# Altium footprint library special.PCBLIB: 77 footprints (part 2 of 5)
Each footprint in its own frame and in the unit in brackets; x right, y up, seen from the top. Pads: shape width x height; smd on the part's side, far side on the other; paste and mask are expansions set on the pad; w line width, h text height; cw(c..) or ccw(c..) is an arc to the next point about the centre after c.
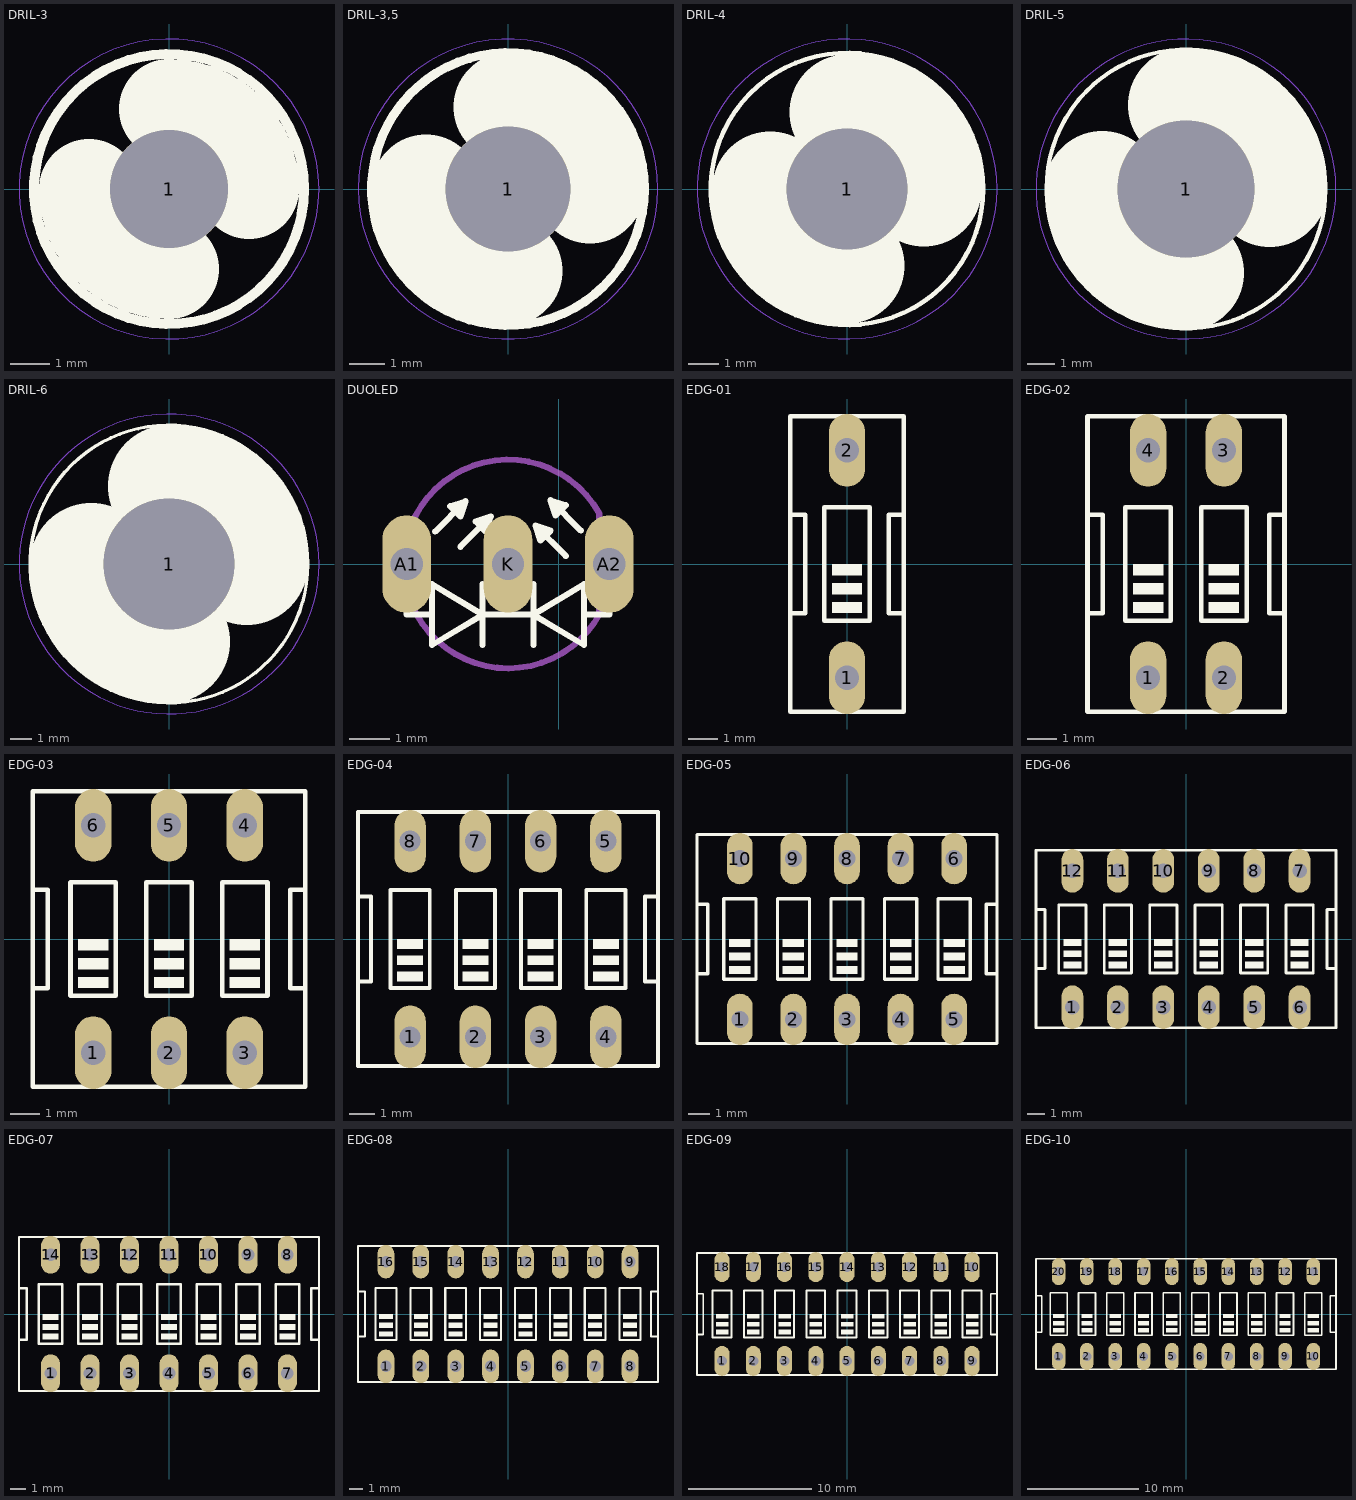
[diagram p1: the footprints below, top view; thin cyan lines are the x and y axes]

## DRIL-3 [mm]
pads (1):
  round 3 hole 3: 1(0,0)
Top Layer keep-out:
  circle w0: c0,0 r3.81
Bottom Layer keep-out:
  circle w0: c0,0 r3.81
Top Overlay:
  circle w0.254: c0,0 r3.429
  lines w2.54: -2.032,0 ccw(c0,0) 0,-2.032 ; 0,2.032 cw(c0,0) 2.032,0
Mechanical 16:
  circle w0.457: c0,0 r0.762
Via Holes:
  circle w0: c0,0 r3.81

## DRIL-3,5 [mil]
pads (1):
  round 137.8 hole 137.8: 1(0,0)
Top Layer keep-out:
  circle w0: c0,0 r165
Bottom Layer keep-out:
  circle w0: c0,0 r165
Top Overlay:
  circle w10: c0,0 r150
  lines w120: -90,0 ccw(c0,0) 0,-90 ; 0,90 cw(c0,0) 90,0
Mechanical 16:
  circle w18: c0,0 r30
Via Holes:
  circle w0: c0,0 r165

## DRIL-4 [mm]
pads (1):
  round 4 hole 4: 1(0,0)
Top Layer keep-out:
  circle w0: c0,0 r4.953
Bottom Layer keep-out:
  circle w0: c0,0 r4.953
Top Overlay:
  circle w0.152: c0,0 r4.496
  lines w3.81: -2.54,0 ccw(c0,0) 0,-2.54 ; 0,2.54 cw(c0,0) 2.54,0
Mechanical 16:
  circle w0.457: c0,0 r0.762
Via Holes:
  circle w0: c0,0 r4.953

## DRIL-5 [mm]
pads (1):
  round 5 hole 5: 1(0,0)
Top Layer keep-out:
  circle w0: c0,0 r5.461
Bottom Layer keep-out:
  circle w0: c0,0 r5.461
Top Overlay:
  circle w0.152: c0,0 r5.08
  lines w4.216: -3.048,0 ccw(c0,0) 0,-3.048 ; 0,3.048 cw(c0,0) 3.048,0
Mechanical 16:
  circle w0.457: c0,0 r0.762
Via Holes:
  circle w0: c0,0 r5.461

## DRIL-6 [mm]
pads (1):
  round 6 hole 6: 1(0,0)
Top Layer keep-out:
  circle w0: c0,0 r6.858
Bottom Layer keep-out:
  circle w0: c0,0 r6.858
Top Overlay:
  circle w0.152: c0,0 r6.35
  lines w5.588: -3.556,0 ccw(c0,0) 0,-3.556 ; 0,3.556 cw(c0,0) 3.556,0
Mechanical 16:
  circle w0.457: c0,0 r0.762
Via Holes:
  circle w0: c0,0 r6.858

## DUOLED [mil]
pads (3):
  oval 48x96 hole 32: A1(-150,0) A2(50,0) K(-50,0)
Top Overlay:
  lines w6: -150,-30 -150,-50 -125,-50 ; -122,32 -92,62 ; -102,57 -97,52 ; -97,17 -67,47 ; -77,42 -72,37 ; -75,-80 -75,-50 ; -75,-20 -75,-50 ; -50,-30 -50,-50 ; -25,-80 -25,-50 ; -25,-20 -25,-50 ; -18,28 -13,33 ; 0,60 2,58 ; 7,8 -23,38 ; 22,33 -8,63 ; 50,-30 50,-50 25,-50 ; -125,-50 -125,-20 -75,-50 ; -125,-50 -125,-80 -75,-50 ; -92,62 -97,47 -107,57 -92,62 ; -75,-50 -50,-50 ; -67,47 -82,42 -72,32 -67,47 ; -50,-50 -25,-50 ; -25,-50 25,-20 25,-50 ; -25,-50 25,-80 25,-50 ; -23,38 -8,33 -18,23 -23,38 ; -8,63 -3,48 7,58 -8,63
Mechanical 16:
  lines w6: 40,-50 40,50 ccw(c-50,0) 40.99,-48.17

## EDG-01 [mil]
pads (2):
  oval 48x96 hole 32: 1(0,-150) 2(0,150)
Top Overlay:
  rectangle: -20,-15 20,0
  rectangle: -20,-40 20,-25
  rectangle: -20,-65 20,-50
  lines w6: -75,-65 -55,-65 -55,65 -75,65 ; -75,-65 -75,-195 75,-195 75,-65 ; -75,-65 -75,65 ; -75,65 -75,195 75,195 75,65 ; 75,-65 55,-65 55,65 75,65 ; 75,-65 75,65 ; -30,-75 -30,75 30,75 30,-75 -30,-75
Mechanical 16:
  text "1" at -10,-165 h93
  text "ON" at -50,100 h93

## EDG-02 [mil]
pads (4):
  oval 48x96 hole 32: 1(-50,-150) 2(50,-150) 3(50,150) 4(-50,150)
Top Overlay:
  rectangle: 30,-15 70,0
  rectangle: 30,-40 70,-25
  rectangle: 30,-65 70,-50
  rectangle: -70,-15 -30,0
  rectangle: -70,-40 -30,-25
  rectangle: -70,-65 -30,-50
  lines w6: -130,-65 -110,-65 -110,65 -130,65 ; -130,-65 -130,-195 130,-195 130,-65 ; -130,-65 -130,65 ; -130,65 -130,195 130,195 130,65 ; 130,-65 110,-65 110,65 130,65 ; 130,-65 130,65 ; -80,-75 -80,75 -20,75 -20,-75 -80,-75 ; 20,-75 20,75 80,75 80,-75 20,-75
Mechanical 16:
  text "1" at -60,-165 h93
  text "ON" at -100,100 h93
  text "2" at 30,-165 h93

## EDG-03 [mil]
pads (6):
  oval 48x96 hole 32: 1(-100,-150) 2(0,-150) 3(100,-150) 4(100,150) 5(0,150) 6(-100,150)
Top Overlay:
  rectangle: 80,-15 120,0
  rectangle: 80,-40 120,-25
  rectangle: 80,-65 120,-50
  rectangle: -20,-15 20,0
  rectangle: -20,-40 20,-25
  rectangle: -20,-65 20,-50
  rectangle: -120,-15 -80,0
  rectangle: -120,-40 -80,-25
  rectangle: -120,-65 -80,-50
  lines w6: -180,-65 -160,-65 -160,65 -180,65 ; -180,-65 -180,-195 180,-195 180,-65 ; -180,-65 -180,65 ; -180,65 -180,195 180,195 180,65 ; 180,-65 160,-65 160,65 180,65 ; 180,-65 180,65 ; -130,-75 -130,75 -70,75 -70,-75 -130,-75 ; -30,-75 -30,75 30,75 30,-75 -30,-75 ; 70,-75 70,75 130,75 130,-75 70,-75
Mechanical 16:
  text "1" at -110,-165 h93
  text "ON" at -150,100 h93
  text "2" at -20,-165 h93
  text "3" at 80,-165 h93

## EDG-04 [mil]
pads (8):
  oval 48x96 hole 32: 1(-150,-150) 2(-50,-150) 3(50,-150) 4(150,-150) 5(150,150) 6(50,150) 7(-50,150) 8(-150,150)
Top Overlay:
  rectangle: 130,-15 170,0
  rectangle: 130,-40 170,-25
  rectangle: 130,-65 170,-50
  rectangle: 30,-15 70,0
  rectangle: 30,-40 70,-25
  rectangle: 30,-65 70,-50
  rectangle: -70,-15 -30,0
  rectangle: -70,-40 -30,-25
  rectangle: -70,-65 -30,-50
  rectangle: -170,-15 -130,0
  rectangle: -170,-40 -130,-25
  rectangle: -170,-65 -130,-50
  lines w6: -230,-65 -210,-65 -210,65 -230,65 ; -230,-65 -230,-195 230,-195 230,-65 ; -230,-65 -230,65 ; -230,65 -230,195 230,195 230,65 ; 230,-65 210,-65 210,65 230,65 ; 230,-65 230,65 ; -180,-75 -180,75 -120,75 -120,-75 -180,-75 ; -80,-75 -80,75 -20,75 -20,-75 -80,-75 ; 20,-75 20,75 80,75 80,-75 20,-75 ; 120,-75 120,75 180,75 180,-75 120,-75
Mechanical 16:
  text "1" at -160,-165 h93
  text "ON" at -200,100 h93
  text "2" at -70,-165 h93
  text "3" at 30,-165 h93
  text "4" at 130,-165 h93
  text "EDG" at 50,100 h93

## EDG-05 [mil]
pads (10):
  oval 48x96 hole 32: 1(-200,-150) 2(-100,-150) 3(0,-150) 4(100,-150) 5(200,-150) 6(200,150) 7(100,150) 8(0,150) 9(-100,150) 10(-200,150)
Top Overlay:
  rectangle: 180,-15 220,0
  rectangle: 180,-40 220,-25
  rectangle: 180,-65 220,-50
  rectangle: 80,-15 120,0
  rectangle: 80,-40 120,-25
  rectangle: 80,-65 120,-50
  rectangle: -20,-15 20,0
  rectangle: -20,-40 20,-25
  rectangle: -20,-65 20,-50
  rectangle: -120,-15 -80,0
  rectangle: -120,-40 -80,-25
  rectangle: -120,-65 -80,-50
  rectangle: -220,-15 -180,0
  rectangle: -220,-40 -180,-25
  rectangle: -220,-65 -180,-50
  lines w6: -280,-65 -260,-65 -260,65 -280,65 ; -280,-65 -280,-195 280,-195 280,-65 ; -280,-65 -280,65 ; -280,65 -280,195 280,195 280,65 ; 280,-65 260,-65 260,65 280,65 ; 280,-65 280,65 ; -230,-75 -230,75 -170,75 -170,-75 -230,-75 ; -130,-75 -130,75 -70,75 -70,-75 -130,-75 ; -30,-75 -30,75 30,75 30,-75 -30,-75 ; 70,-75 70,75 130,75 130,-75 70,-75 ; 170,-75 170,75 230,75 230,-75 170,-75
Mechanical 16:
  text "1" at -210,-165 h93
  text "ON" at -250,100 h93
  text "2" at -120,-165 h93
  text "3" at -20,-165 h93
  text "4" at 80,-165 h93
  text "5" at 180,-165 h93
  text "EDG" at 100,100 h93

## EDG-06 [mil]
pads (12):
  oval 48x96 hole 32: 1(-250,-150) 2(-150,-150) 3(-50,-150) 4(50,-150) 5(150,-150) 6(250,-150) 7(250,150) 8(150,150) 9(50,150) 10(-50,150) 11(-150,150) 12(-250,150)
Top Overlay:
  rectangle: 230,-15 270,0
  rectangle: 230,-40 270,-25
  rectangle: 230,-65 270,-50
  rectangle: 130,-15 170,0
  rectangle: 130,-40 170,-25
  rectangle: 130,-65 170,-50
  rectangle: 30,-15 70,0
  rectangle: 30,-40 70,-25
  rectangle: 30,-65 70,-50
  rectangle: -70,-15 -30,0
  rectangle: -70,-40 -30,-25
  rectangle: -70,-65 -30,-50
  rectangle: -170,-15 -130,0
  rectangle: -170,-40 -130,-25
  rectangle: -170,-65 -130,-50
  rectangle: -270,-15 -230,0
  rectangle: -270,-40 -230,-25
  rectangle: -270,-65 -230,-50
  lines w6: -330,-65 -310,-65 -310,65 -330,65 ; -330,-65 -330,-195 330,-195 330,-65 ; -330,-65 -330,65 ; -330,65 -330,195 330,195 330,65 ; 330,-65 310,-65 310,65 330,65 ; 330,-65 330,65 ; -280,-75 -280,75 -220,75 -220,-75 -280,-75 ; -180,-75 -180,75 -120,75 -120,-75 -180,-75 ; -80,-75 -80,75 -20,75 -20,-75 -80,-75 ; 20,-75 20,75 80,75 80,-75 20,-75 ; 120,-75 120,75 180,75 180,-75 120,-75 ; 220,-75 220,75 280,75 280,-75 220,-75
Mechanical 16:
  text "1" at -260,-165 h93
  text "ON" at -300,100 h93
  text "2" at -170,-165 h93
  text "3" at -70,-165 h93
  text "4" at 30,-165 h93
  text "5" at 130,-165 h93
  text "6" at 230,-165 h93
  text "EDG" at 150,100 h93

## EDG-07 [mil]
pads (14):
  oval 48x96 hole 32: 1(-300,-150) 2(-200,-150) 3(-100,-150) 4(0,-150) 5(100,-150) 6(200,-150) 7(300,-150) 8(300,150) 9(200,150) 10(100,150) 11(0,150) 12(-100,150) 13(-200,150) 14(-300,150)
Top Overlay:
  rectangle: 280,-15 320,0
  rectangle: 280,-40 320,-25
  rectangle: 280,-65 320,-50
  rectangle: 180,-15 220,0
  rectangle: 180,-40 220,-25
  rectangle: 180,-65 220,-50
  rectangle: 80,-15 120,0
  rectangle: 80,-40 120,-25
  rectangle: 80,-65 120,-50
  rectangle: -20,-15 20,0
  rectangle: -20,-40 20,-25
  rectangle: -20,-65 20,-50
  rectangle: -120,-15 -80,0
  rectangle: -120,-40 -80,-25
  rectangle: -120,-65 -80,-50
  rectangle: -220,-15 -180,0
  rectangle: -220,-40 -180,-25
  rectangle: -220,-65 -180,-50
  rectangle: -320,-15 -280,0
  rectangle: -320,-40 -280,-25
  rectangle: -320,-65 -280,-50
  lines w6: -380,-65 -360,-65 -360,65 -380,65 ; -380,-65 -380,-195 380,-195 380,-65 ; -380,-65 -380,65 ; -380,65 -380,195 380,195 380,65 ; 380,-65 360,-65 360,65 380,65 ; 380,-65 380,65 ; -330,-75 -330,75 -270,75 -270,-75 -330,-75 ; -230,-75 -230,75 -170,75 -170,-75 -230,-75 ; -130,-75 -130,75 -70,75 -70,-75 -130,-75 ; -30,-75 -30,75 30,75 30,-75 -30,-75 ; 70,-75 70,75 130,75 130,-75 70,-75 ; 170,-75 170,75 230,75 230,-75 170,-75 ; 270,-75 270,75 330,75 330,-75 270,-75
Mechanical 16:
  text "1" at -310,-165 h93
  text "ON" at -350,100 h93
  text "2" at -220,-165 h93
  text "3" at -120,-165 h93
  text "4" at -20,-165 h93
  text "5" at 80,-165 h93
  text "6" at 180,-165 h93
  text "7" at 280,-165 h93
  text "EDG" at 200,100 h93

## EDG-08 [mil]
pads (16):
  oval 48x96 hole 32: 1(-350,-150) 2(-250,-150) 3(-150,-150) 4(-50,-150) 5(50,-150) 6(150,-150) 7(250,-150) 8(350,-150) 9(350,150) 10(250,150) 11(150,150) 12(50,150) 13(-50,150) 14(-150,150) 15(-250,150) 16(-350,150)
Top Overlay:
  rectangle: 330,-15 370,0
  rectangle: 330,-40 370,-25
  rectangle: 330,-65 370,-50
  rectangle: 230,-15 270,0
  rectangle: 230,-40 270,-25
  rectangle: 230,-65 270,-50
  rectangle: 130,-15 170,0
  rectangle: 130,-40 170,-25
  rectangle: 130,-65 170,-50
  rectangle: 30,-15 70,0
  rectangle: 30,-40 70,-25
  rectangle: 30,-65 70,-50
  rectangle: -70,-15 -30,0
  rectangle: -70,-40 -30,-25
  rectangle: -70,-65 -30,-50
  rectangle: -170,-15 -130,0
  rectangle: -170,-40 -130,-25
  rectangle: -170,-65 -130,-50
  rectangle: -270,-15 -230,0
  rectangle: -270,-40 -230,-25
  rectangle: -270,-65 -230,-50
  rectangle: -370,-15 -330,0
  rectangle: -370,-40 -330,-25
  rectangle: -370,-65 -330,-50
  lines w6: -430,-65 -410,-65 -410,65 -430,65 ; -430,-65 -430,-195 430,-195 430,-65 ; -430,-65 -430,65 ; -430,65 -430,195 430,195 430,65 ; 430,-65 410,-65 410,65 430,65 ; 430,-65 430,65 ; -380,-75 -380,75 -320,75 -320,-75 -380,-75 ; -280,-75 -280,75 -220,75 -220,-75 -280,-75 ; -180,-75 -180,75 -120,75 -120,-75 -180,-75 ; -80,-75 -80,75 -20,75 -20,-75 -80,-75 ; 20,-75 20,75 80,75 80,-75 20,-75 ; 120,-75 120,75 180,75 180,-75 120,-75 ; 220,-75 220,75 280,75 280,-75 220,-75 ; 320,-75 320,75 380,75 380,-75 320,-75
Mechanical 16:
  text "1" at -360,-165 h93
  text "ON" at -400,100 h93
  text "2" at -270,-165 h93
  text "3" at -170,-165 h93
  text "4" at -70,-165 h93
  text "5" at 30,-165 h93
  text "6" at 130,-165 h93
  text "7" at 230,-165 h93
  text "8" at 330,-165 h93
  text "EDG" at 250,100 h93

## EDG-09 [mil]
pads (18):
  oval 48x96 hole 32: 1(-400,-150) 2(-300,-150) 3(-200,-150) 4(-100,-150) 5(0,-150) 6(100,-150) 7(200,-150) 8(300,-150) 9(400,-150) 10(400,150) 11(300,150) 12(200,150) 13(100,150) 14(0,150) 15(-100,150) 16(-200,150) 17(-300,150) 18(-400,150)
Top Overlay:
  rectangle: 380,-15 420,0
  rectangle: 380,-40 420,-25
  rectangle: 380,-65 420,-50
  rectangle: 280,-15 320,0
  rectangle: 280,-40 320,-25
  rectangle: 280,-65 320,-50
  rectangle: 180,-15 220,0
  rectangle: 180,-40 220,-25
  rectangle: 180,-65 220,-50
  rectangle: 80,-15 120,0
  rectangle: 80,-40 120,-25
  rectangle: 80,-65 120,-50
  rectangle: -20,-15 20,0
  rectangle: -20,-40 20,-25
  rectangle: -20,-65 20,-50
  rectangle: -120,-15 -80,0
  rectangle: -120,-40 -80,-25
  rectangle: -120,-65 -80,-50
  rectangle: -220,-15 -180,0
  rectangle: -220,-40 -180,-25
  rectangle: -220,-65 -180,-50
  rectangle: -320,-15 -280,0
  rectangle: -320,-40 -280,-25
  rectangle: -320,-65 -280,-50
  rectangle: -420,-15 -380,0
  rectangle: -420,-40 -380,-25
  rectangle: -420,-65 -380,-50
  lines w6: -480,-65 -460,-65 -460,65 -480,65 ; -480,-65 -480,-195 480,-195 480,-65 ; -480,-65 -480,65 ; -480,65 -480,195 480,195 480,65 ; 480,-65 460,-65 460,65 480,65 ; 480,-65 480,65 ; -430,-75 -430,75 -370,75 -370,-75 -430,-75 ; -330,-75 -330,75 -270,75 -270,-75 -330,-75 ; -230,-75 -230,75 -170,75 -170,-75 -230,-75 ; -130,-75 -130,75 -70,75 -70,-75 -130,-75 ; -30,-75 -30,75 30,75 30,-75 -30,-75 ; 70,-75 70,75 130,75 130,-75 70,-75 ; 170,-75 170,75 230,75 230,-75 170,-75 ; 270,-75 270,75 330,75 330,-75 270,-75 ; 370,-75 370,75 430,75 430,-75 370,-75
Mechanical 16:
  text "1" at -410,-165 h93
  text "ON" at -450,100 h93
  text "2" at -320,-165 h93
  text "3" at -220,-165 h93
  text "4" at -120,-165 h93
  text "5" at -20,-165 h93
  text "6" at 80,-165 h93
  text "7" at 180,-165 h93
  text "8" at 280,-165 h93
  text "9" at 380,-165 h93
  text "EDG" at 300,100 h93

## EDG-10 [mil]
pads (20):
  oval 48x96 hole 32: 1(-450,-150) 2(-350,-150) 3(-250,-150) 4(-150,-150) 5(-50,-150) 6(50,-150) 7(150,-150) 8(250,-150) 9(350,-150) 10(450,-150) 11(450,150) 12(350,150) 13(250,150) 14(150,150) 15(50,150) 16(-50,150) 17(-150,150) 18(-250,150) 19(-350,150) 20(-450,150)
Top Overlay:
  rectangle: 430,-15 470,0
  rectangle: 430,-40 470,-25
  rectangle: 430,-65 470,-50
  rectangle: 330,-15 370,0
  rectangle: 330,-40 370,-25
  rectangle: 330,-65 370,-50
  rectangle: 230,-15 270,0
  rectangle: 230,-40 270,-25
  rectangle: 230,-65 270,-50
  rectangle: 130,-15 170,0
  rectangle: 130,-40 170,-25
  rectangle: 130,-65 170,-50
  rectangle: 30,-15 70,0
  rectangle: 30,-40 70,-25
  rectangle: 30,-65 70,-50
  rectangle: -70,-15 -30,0
  rectangle: -70,-40 -30,-25
  rectangle: -70,-65 -30,-50
  rectangle: -170,-15 -130,0
  rectangle: -170,-40 -130,-25
  rectangle: -170,-65 -130,-50
  rectangle: -270,-15 -230,0
  rectangle: -270,-40 -230,-25
  rectangle: -270,-65 -230,-50
  rectangle: -370,-15 -330,0
  rectangle: -370,-40 -330,-25
  rectangle: -370,-65 -330,-50
  rectangle: -470,-15 -430,0
  rectangle: -470,-40 -430,-25
  rectangle: -470,-65 -430,-50
  lines w6: -530,-65 -510,-65 -510,65 -530,65 ; -530,-65 -530,-195 530,-195 530,-65 ; -530,-65 -530,65 ; -530,65 -530,195 530,195 530,65 ; 530,-65 510,-65 510,65 530,65 ; 530,-65 530,65 ; -480,-75 -480,75 -420,75 -420,-75 -480,-75 ; -380,-75 -380,75 -320,75 -320,-75 -380,-75 ; -280,-75 -280,75 -220,75 -220,-75 -280,-75 ; -180,-75 -180,75 -120,75 -120,-75 -180,-75 ; -80,-75 -80,75 -20,75 -20,-75 -80,-75 ; 20,-75 20,75 80,75 80,-75 20,-75 ; 120,-75 120,75 180,75 180,-75 120,-75 ; 220,-75 220,75 280,75 280,-75 220,-75 ; 320,-75 320,75 380,75 380,-75 320,-75 ; 420,-75 420,75 480,75 480,-75 420,-75
Mechanical 16:
  text "1" at -460,-165 h93
  text "ON" at -500,100 h93
  text "2" at -370,-165 h93
  text "3" at -270,-165 h93
  text "4" at -170,-165 h93
  text "5" at -70,-165 h93
  text "6" at 30,-165 h93
  text "7" at 130,-165 h93
  text "8" at 230,-165 h93
  text "9" at 330,-165 h93
  text "10" at 405,-165 h93
  text "EDG" at 350,100 h93